# Altium footprint library SOT-23_N.PcbLib: 1 footprints
Each footprint in its own frame and in the unit in brackets; x right, y up, seen from the top. Pads: shape width x height; smd on the part's side, far side on the other; paste and mask are expansions set on the pad; w line width, h text height; cw(c..) or ccw(c..) is an arc to the next point about the centre after c.
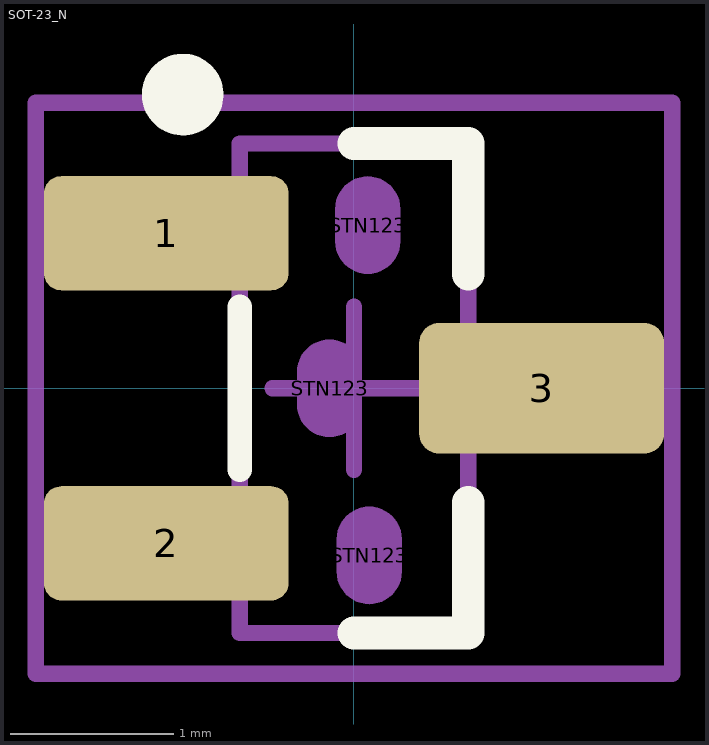
[diagram p0: the footprint, top view; thin cyan lines are the x and y axes]

## SOT-23_N [mm] "SOT23, 3-Leads, Body 2.9x1.3mm, Pitch 0.95mm, Lead Span 2.5mm, IPC Medium Density"
height 1.1
pads (6):
  rrect30% 1.5x0.7 smd: 1(-1.15,0.95) 2(-1.15,-0.95)
  rrect30% 1.5x0.8 smd: 3(1.15,0)
  oval 0.4x0.6 on Mech2 mask+0: STN123(-0.15,0) STN123(0.084,1) STN123(0.093,-1.024)
Top Overlay:
  circle w0.25: c-1.05,1.8 r0.125
  lines w0.15: -0.7,-0.5 -0.7,0.5
  lines w0.2: 0,-1.5 0.7,-1.5 0.7,-0.7 ; 0,1.5 0.7,1.5 0.7,0.7
Mechanical 13:
  lines w0.1: -0.7,-1.5 0.7,-1.5 0.7,1.5 -0.7,1.5 -0.7,-1.5
Mechanical 15:
  lines w0.1: -0.5,0 0.5,0 ; 0,-0.5 0,0.5 ; -1.95,-1.75 1.95,-1.75 1.95,1.75 -1.95,1.75 -1.95,-1.75
3D body "User Library-SOT-23-3-1.STEP": height 1.1, standoff 0, extent -1.271,-1.5 1.271,1.5